# Altium footprint library PcbLib1.PcbLib: 4 footprints
Each footprint in its own frame and in the unit in brackets; x right, y up, seen from the top. Pads: shape width x height; smd on the part's side, far side on the other; paste and mask are expansions set on the pad; w line width, h text height; cw(c..) or ccw(c..) is an arc to the next point about the centre after c.
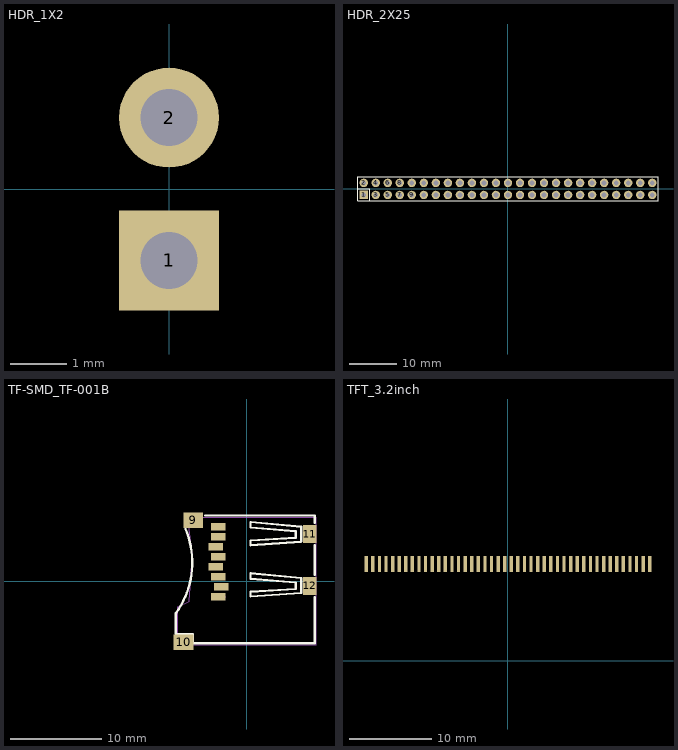
[diagram p0: the footprints below, top view; thin cyan lines are the x and y axes]

## HDR_1X2 [mil]
pads (2):
  rect 70x70 / inner round 70 / far side rect 70x70 hole 40: 1(0,-50)
  round 70 hole 40: 2(0,50)
Bottom Overlay:
  lines w6: -55,-95 -50,-100 ; -55,-90 -45,-100 ; -55,-85 -35,-105 ; -55,-75 -25,-105 ; -55,-105 -55,105 55,105 55,-105 -55,-105

## HDR_2X25 [mil]
pads (50):
  rect 70x70 hole 40: 1(-1200,-50)
  round 70 hole 40: 2(-1200,50) 3(-1100,-50) 4(-1100,50) 5(-1000,-50) 6(-1000,50) 7(-900,-50) 8(-900,50) 9(-800,-50) 10(-800,50) 11(-700,-50) 12(-700,50) 13(-600,-50) 14(-600,50) 15(-500,-50) 16(-500,50) 17(-400,-50) 18(-400,50) 19(-300,-50) 20(-300,50) 21(-200,-50) 22(-200,50) 23(-100,-50) 24(-100,50) 25(0,-50) 26(0,50) 27(100,-50) 28(100,50) 29(200,-50) 30(200,50) 31(300,-50) 32(300,50) 33(400,-50) 34(400,50) 35(500,-50) 36(500,50) 37(600,-50) 38(600,50) 39(700,-50) 40(700,50) 41(800,-50) 42(800,50) 43(900,-50) 44(900,50) 45(1000,-50) 46(1000,50) 47(1100,-50) 48(1100,50) 49(1200,-50) 50(1200,50)
Top Overlay:
  lines w5: -1246.46,0 -1151.57,0 -1151.57,-101.18
  lines w8: -1247.64,-100 -1247.64,100 1248.03,100 1248.03,-100 -1247.64,-100

## TF-SMD_TF-001B [mm]
pads (12):
  rect 1.6x0.8 smd: 1(-3.145,-1.726) 2(-2.8,-0.625) 3(-3.15,0.475) 4(-3.4,1.575) 5(-3.15,2.675) 6(-3.4,3.775) 7(-3.15,4.875) 8(-3.15,5.975)
  rect 2.2x1.7 smd: 9(-5.9,6.725) 10(-6.95,-6.725)
  rect 1.5x2 smd: 11(6.95,5.175) 12(6.95,-0.525)
Top Overlay:
  lines w0.254: -7.824,-3.514 -7.824,-5.825 -5.919,-5.825 -5.919,-6.841 7.467,-6.841 7.467,-1.756 ; -7.798,-3.514 ccw(c-15.549,2.051) -6.757,5.757 -6.757,7.256 ; -4.569,7.23 7.467,7.23 7.467,6.406 ; 7.467,0.706 7.467,3.944 ; 0.406,-1.685 5.968,-1.304 5.994,-1.279 5.994,0.347 0.431,0.88 0.406,0.855 0.406,0.271 5.384,-0.161 5.384,-0.872 0.406,-1.177 0.406,-1.314 0.406,-1.685 ; 0.406,3.954 5.968,4.335 5.994,4.36 5.994,5.986 0.431,6.519 0.406,6.494 0.406,5.91 5.384,5.478 5.384,4.767 0.406,4.462 0.406,4.325 0.406,3.954
Mechanical 6:
  circle w0.254: c-2.616,-1.753 r0.127
Mechanical 15:
  region: -7.565,-7.025 -7.565,-7.001 -7.6,-6.966 -7.649,-6.966 -7.684,-7.001 -7.685,-7.025 -7.684,-7.049 -7.649,-7.084 -7.6,-7.084 -7.565,-7.049 -7.565,-7.025
  region: -6.3,-6.175 -6.3,-7.025 -7.6,-7.025 -7.6,-6.175
  region: -5.25,7.025 -5.25,6.175 -6.55,6.175 -6.55,7.025
  region: -3.45,6.075 -2.85,6.075 -2.85,5.875 -3.45,5.875
  region: -3.45,4.975 -2.85,4.975 -2.85,4.775 -3.45,4.775
  region: -3.7,3.875 -3.1,3.875 -3.1,3.675 -3.7,3.675
  region: -3.45,2.775 -2.85,2.775 -2.85,2.575 -3.45,2.575
  region: -3.7,1.675 -3.1,1.675 -3.1,1.475 -3.7,1.475
  region: -3.45,0.575 -2.85,0.575 -2.85,0.375 -3.45,0.375
  region: -3.1,-0.525 -2.5,-0.525 -2.5,-0.725 -3.1,-0.725
  region: -2.845,-1.826 -3.445,-1.826 -3.445,-1.626 -2.845,-1.626
  region: 7.625,-1.125 7.025,-1.125 7.025,0.075 7.625,0.075
  region: 7.625,4.575 7.025,4.575 7.025,5.775 7.625,5.775
  lines w0.051: -7.625,-7.025 -7.625,-2.805 -6.315,-2.225 -6.028,2.569 -6.569,7.025 7.625,7.025 7.625,-7.025 -7.625,-7.025

## TFT_3.2inch [mm]
pads (44):
  rect 0.4x2 smd: 1(17.2,11.75) 2(16.4,11.75) 3(15.6,11.75) 4(14.8,11.75) 5(14,11.75) 6(13.2,11.75) 7(12.4,11.75) 8(11.6,11.75) 9(10.8,11.75) 10(10,11.75) 11(9.2,11.75) 12(8.4,11.75) 13(7.6,11.75) 14(6.8,11.75) 15(6,11.75) 16(5.2,11.75) 17(4.4,11.75) 18(3.6,11.75) 19(2.8,11.75) 20(2,11.75) 21(1.2,11.75) 22(0.4,11.75) 23(-0.4,11.75) 24(-1.2,11.75) 25(-2,11.75) 26(-2.8,11.75) 27(-3.6,11.75) 28(-4.4,11.75) 29(-5.2,11.75) 30(-6,11.75) 31(-6.8,11.75) 32(-7.6,11.75) 33(-8.4,11.75) 34(-9.2,11.75) 35(-10,11.75) 36(-10.8,11.75) 37(-11.6,11.75) 38(-12.4,11.75) 39(-13.2,11.75) 40(-14,11.75) 41(-14.8,11.75) 42(-15.6,11.75) 43(-16.4,11.75) 44(-17.2,11.75)
3D body: height 5.5, standoff 2, extent -19.5,-1.5 -12.5,0
3D body: height 5.8, standoff 2, extent -24,0 24,81